# Altium footprint library x-ABRA_ABLS.PcbLib: 1 footprints
Each footprint in its own frame and in the unit in brackets; x right, y up, seen from the top. Pads: shape width x height; smd on the part's side, far side on the other; paste and mask are expansions set on the pad; w line width, h text height; cw(c..) or ccw(c..) is an arc to the next point about the centre after c.
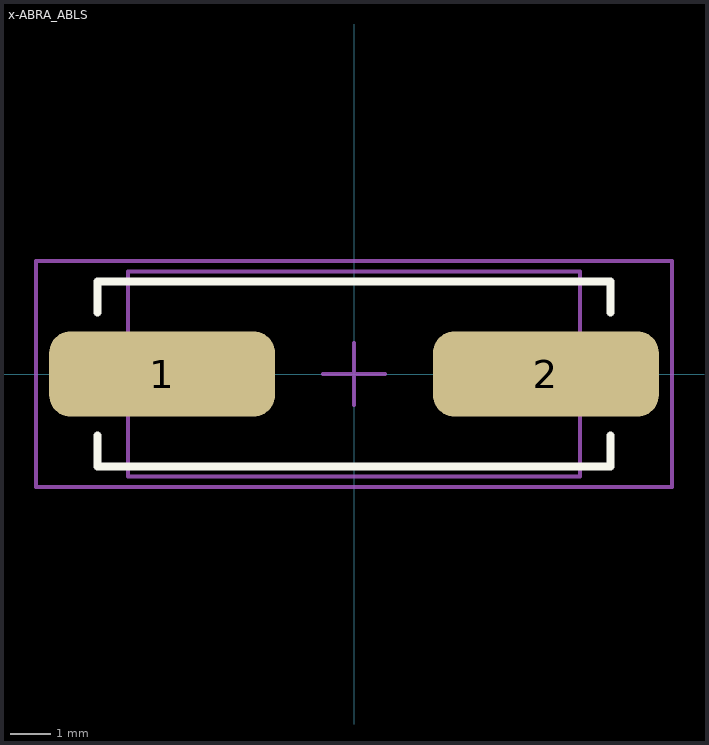
[diagram p0: the footprint, top view; thin cyan lines are the x and y axes]

## x-ABRA_ABLS [mil] "SMD Low Profile Crystal"
height 165.35
pads (2):
  rrect50% 220x83 smd: 1(-187,0) 2(187,0)
Top Overlay:
  lines w7.87: -250,-60 -250,-90 250,-90 250,-60 ; -250,60 -250,90 250,90 250,60
Mechanical 13:
  lines w3.94: -220,-100 220,-100 220,100 -220,100 -220,-100
Mechanical 15:
  lines w3.94: -30,0 30,0 ; 0,-30 0,30 ; -310,-110 -310,110 310,110 310,-110 -310,-110
3D body: height 160, standoff -4, extent -250,-90 250,95